# EAGLE library part AD8400ARZ1 (library scono)
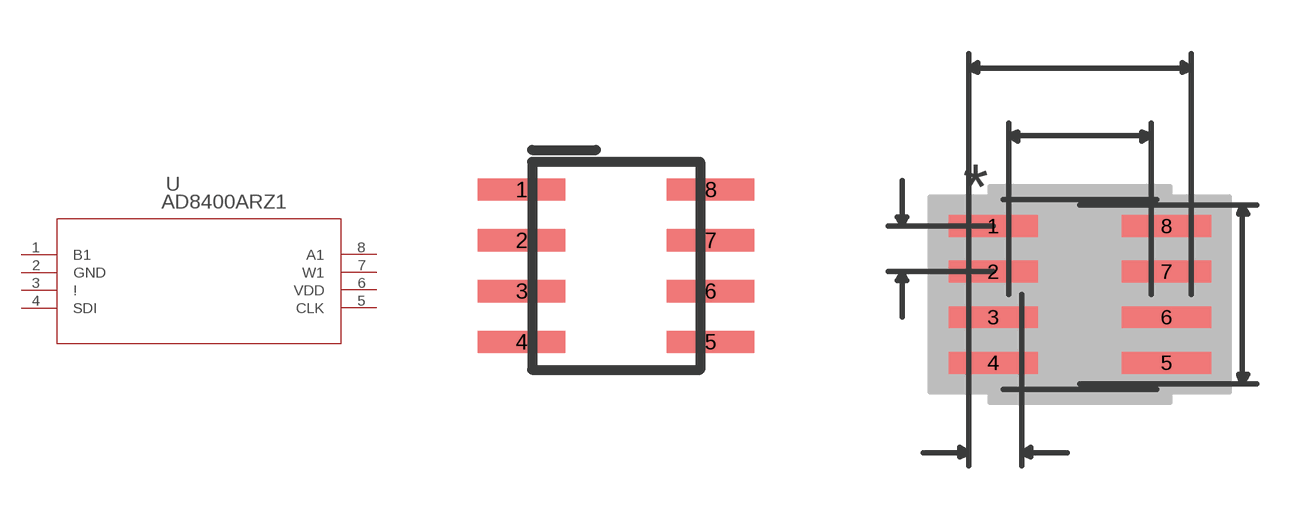
[diagram p52: symbol with the pads of R_8; footprints R_8, R_8-M]

Designator prefix U

## AD8400ARZ1 (MANUFACTURER_PART_NUMBER: AD8400ARZ1; VENDOR: Analog Devices Inc)  [R_8]
1  B1  pas
2  GND  pas
3  !  pas
4  SDI  pas
5  CLK  pas
6  VDD  pwr
7  W1  pas
8  A1  pas

## AD8400ARZ1R_8-M (MANUFACTURER_PART_NUMBER: AD8400ARZ1; VENDOR: Analog Devices Inc)  [R_8-M]
Pads as for R_8

## AD8400ARZ1R_8-L (MANUFACTURER_PART_NUMBER: AD8400ARZ1; VENDOR: Analog Devices Inc)  [R_8-L]
Pads as for R_8

## Footprint R_8 (pad centres in mm)
smd 2.184 x 0.559: 1 -2.362,1.905; 2 -2.362,0.635; 3 -2.362,-0.635; 4 -2.362,-1.905; 5 2.362,-1.905; 6 2.362,-0.635; 7 2.362,0.635; 8 2.362,1.905

## Footprint R_8-M (pad centres in mm)
smd 2.489 x 0.61: 1 -2.413,1.905; 2 -2.413,0.635; 3 -2.413,-0.635; 4 -2.413,-1.905; 5 2.413,-1.905; 6 2.413,-0.635; 7 2.413,0.635; 8 2.413,1.905

## Footprint R_8-L (pad centres in mm)
smd 1.88 x 0.508: 1 -2.311,1.905; 2 -2.311,0.635; 3 -2.311,-0.635; 4 -2.311,-1.905; 5 2.311,-1.905; 6 2.311,-0.635; 7 2.311,0.635; 8 2.311,1.905